# Altium footprint library PcbLib1.PcbLib: 14 footprints
Each footprint in its own frame and in the unit in brackets; x right, y up, seen from the top. Pads: shape width x height; smd on the part's side, far side on the other; paste and mask are expansions set on the pad; w line width, h text height; cw(c..) or ccw(c..) is an arc to the next point about the centre after c.
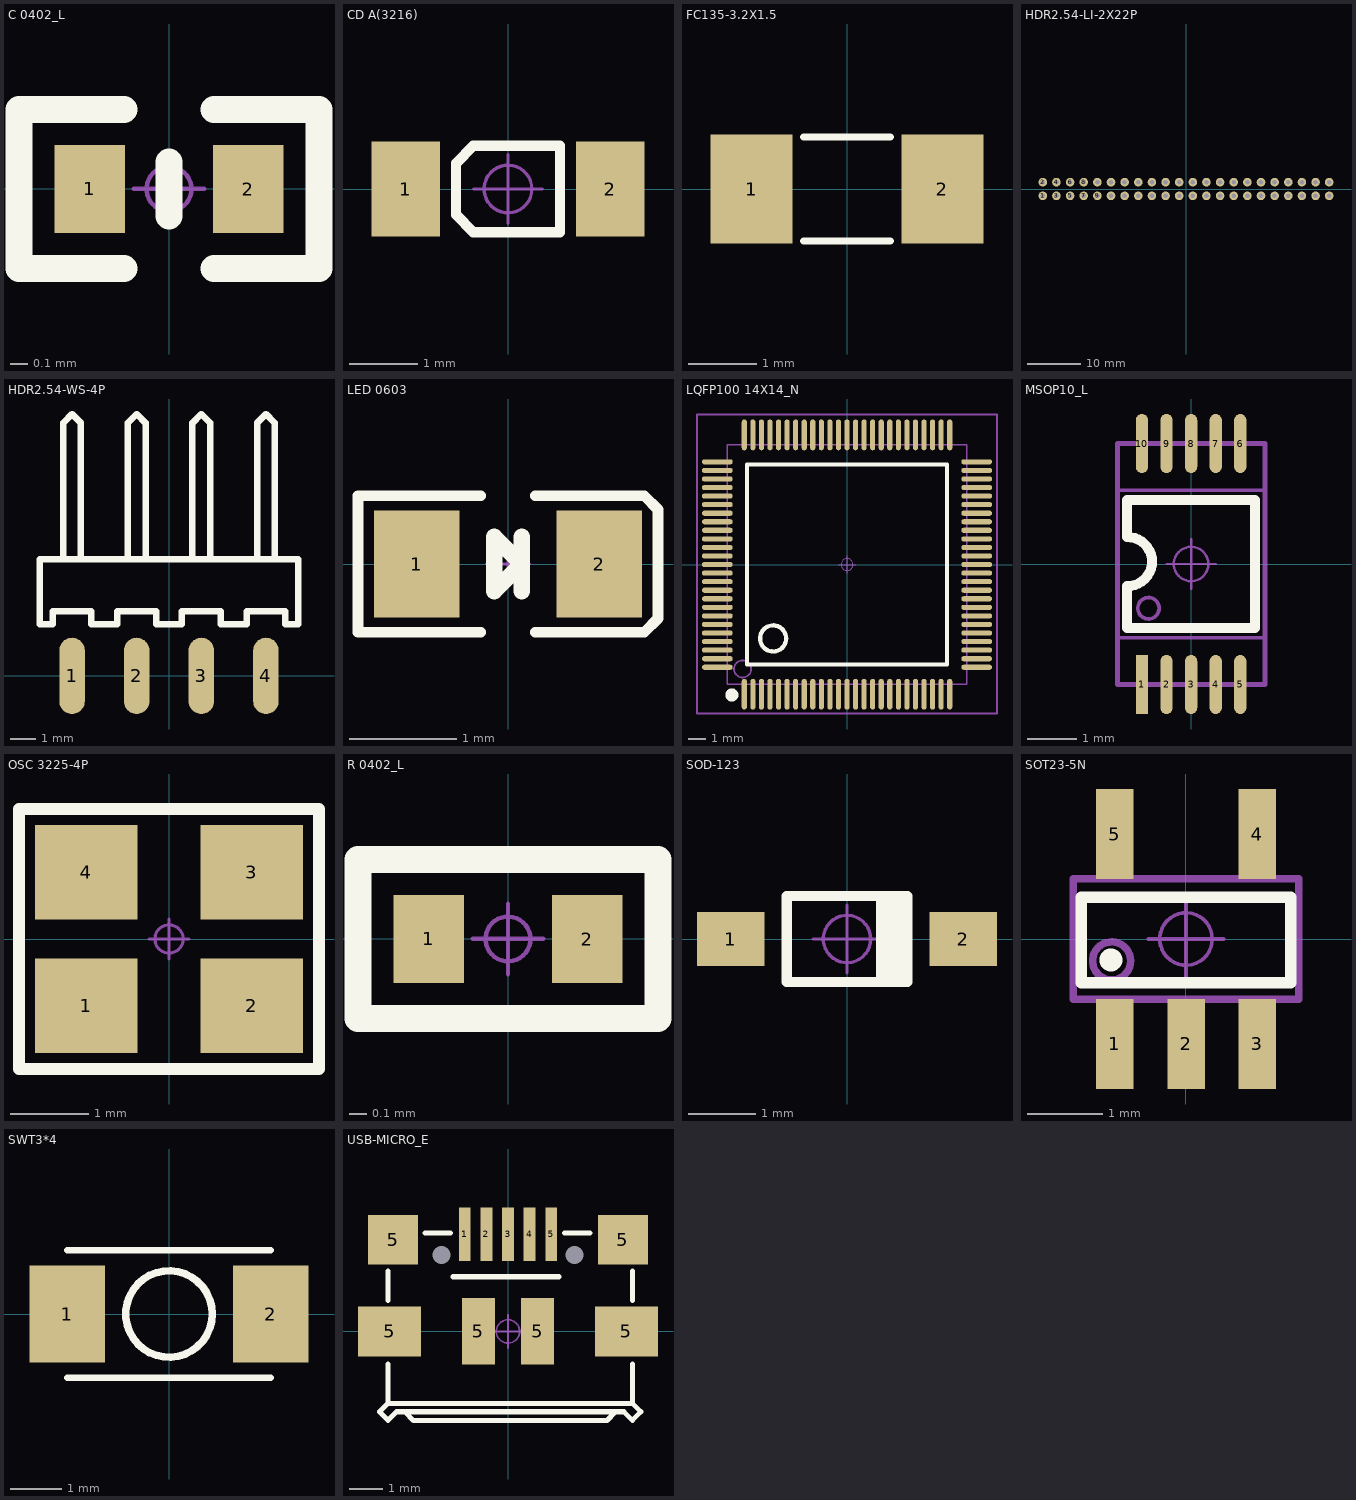
[diagram p0: the footprints below, top view; thin cyan lines are the x and y axes]

## C 0402_L [mm] "无极性贴片电容"
pads (2):
  rect 0.4x0.5 smd: 1(-0.45,0) 2(0.45,0)
Top Overlay:
  lines w0.152: -0.254,-0.45 -0.85,-0.45 ; -0.254,0.45 -0.85,0.45 -0.85,-0.45 ; 0,-0.152 0,0.152 ; 0.254,-0.45 0.85,-0.45 0.85,0.45 0.254,0.45 ; -0.85,-0.45 -0.85,-0.45
Mechanical 15:
  circle w0.025: c0,0 r0.127
  lines w0.025: -0.2,0 0.2,0 ; 0,-0.2 0,0.2
3D body "C 0402.STEP": height 0.53, standoff 0.01, extent -0.5,-0.26 0.5,0.26

## CD A(3216) [mm] "长3.2mm，宽1.6mm，厚1.6mm"
pads (2):
  rect 1x1.4 smd: 1(-1.5,0) 2(1.5,0)
Top Overlay:
  lines w0.152: -0.762,-0.381 -0.508,-0.635 0.762,-0.635 0.762,0.635 -0.508,0.635 -0.762,0.381 -0.762,-0.381
Mechanical 15:
  circle w0.05: c0,0 r0.35
  lines w0.05: -0.5,0 0.5,0 ; 0,-0.5 0,0.5
3D body "CD A(3216).STEP": height 1.6, standoff -0.01, extent -1.6,-0.8 1.6,0.8

## FC135-3.2X1.5 [mm] "晶振"
pads (2):
  rect 1.2x1.6 smd: 1(-1.4,0) 2(1.4,0)
Top Overlay:
  lines w0.102: -0.635,-0.762 0.635,-0.762 ; -0.635,0.762 0.635,0.762
3D body "User Library-ABS07.STEP": height 0.91, standoff 0, extent -1.61,-0.76 1.61,0.76

## HDR2.54-LI-2X22P [mm] "双排排针，20x2脚"
pads (44):
  round 1.6 hole 0.9: 1(-26.67,-1.27) 2(-26.67,1.27) 3(-24.13,-1.27) 4(-24.13,1.27) 5(-21.59,-1.27) 6(-21.59,1.27) 7(-19.05,-1.27) 8(-19.05,1.27) 9(-16.51,-1.27) 10(-16.51,1.27) 11(-13.97,-1.27) 12(-13.97,1.27) 13(-11.43,-1.27) 14(-11.43,1.27) 15(-8.89,-1.27) 16(-8.89,1.27) 17(-6.35,-1.27) 18(-6.35,1.27) 19(-3.81,-1.27) 20(-3.81,1.27) 21(-1.27,-1.27) 22(-1.27,1.27) 23(1.27,-1.27) 24(1.27,1.27) 25(3.81,-1.27) 26(3.81,1.27) 27(6.35,-1.27) 28(6.35,1.27) 29(8.89,-1.27) 30(8.89,1.27) 31(11.43,-1.27) 32(11.43,1.27) 33(13.97,-1.27) 34(13.97,1.27) 35(16.51,-1.27) 36(16.51,1.27) 37(19.05,-1.27) 38(19.05,1.27) 39(21.59,-1.27) 40(21.59,1.27) 41(24.13,-1.27) 42(24.13,1.27) 43(26.67,-1.27) 44(26.67,1.27)
Bottom Overlay:
  lines w0.2: -27.94,-2.159 -27.94,2.159
  lines w0.203: -27.94,-2.159 -27.559,-2.54 27.559,-2.54 27.94,-2.159 27.94,2.159 27.559,2.54 -27.559,2.54 -27.94,2.159 ; -27.94,0 27.94,0 ; -25.4,-2.54 -25.4,2.54 ; -22.86,-2.54 -22.86,2.54 ; -20.32,-2.54 -20.32,2.54 ; -17.78,-2.54 -17.78,2.54 ; -15.24,-2.54 -15.24,2.54 ; -12.7,-2.54 -12.7,2.54 ; -10.16,-2.54 -10.16,2.54 ; -7.62,-2.54 -7.62,2.54 ; -5.08,-2.54 -5.08,2.54 ; -2.54,-2.54 -2.54,2.54 ; 0,-2.54 0,2.54 ; 2.54,-2.54 2.54,2.54 ; 5.08,-2.54 5.08,2.54 ; 7.62,-2.54 7.62,2.54 ; 10.16,-2.54 10.16,2.54 ; 12.7,-2.54 12.7,2.54 ; 15.24,-2.54 15.24,2.54 ; 17.78,-2.54 17.78,2.54 ; 20.32,-2.54 20.32,2.54 ; 22.86,-2.54 22.86,2.54 ; 25.4,-2.54 25.4,2.54
3D body "HDR2.54-1x2P.STEP": height 8.5, standoff -3, extent 25.4,-2.54 27.94,2.54
3D body "HDR2.54-1x2P.STEP": height 8.5, standoff -3, extent 22.86,-2.54 25.4,2.54
3D body "HDR2.54-1x2P.STEP": height 8.5, standoff -3, extent 20.32,-2.54 22.86,2.54
3D body "HDR2.54-1x2P.STEP": height 8.5, standoff -3, extent 17.78,-2.54 20.32,2.54
3D body "HDR2.54-1x2P.STEP": height 8.5, standoff -3, extent 15.24,-2.54 17.78,2.54
3D body "HDR2.54-1x2P.STEP": height 8.5, standoff -3, extent 12.7,-2.54 15.24,2.54
3D body "HDR2.54-1x2P.STEP": height 8.5, standoff -3, extent 10.16,-2.54 12.7,2.54
3D body "HDR2.54-1x2P.STEP": height 8.5, standoff -3, extent 7.62,-2.54 10.16,2.54
3D body "HDR2.54-1x2P.STEP": height 8.5, standoff -3, extent 5.08,-2.54 7.62,2.54
3D body "HDR2.54-1x2P.STEP": height 8.5, standoff -3, extent 2.54,-2.54 5.08,2.54
3D body "HDR2.54-1x2P.STEP": height 8.5, standoff -3, extent 0,-2.54 2.54,2.54
3D body "HDR2.54-1x2P.STEP": height 8.5, standoff -3, extent -2.54,-2.54 0,2.54
3D body "HDR2.54-1x2P.STEP": height 8.5, standoff -3, extent -5.08,-2.54 -2.54,2.54
3D body "HDR2.54-1x2P.STEP": height 8.5, standoff -3, extent -7.62,-2.54 -5.08,2.54
3D body "HDR2.54-1x2P.STEP": height 8.5, standoff -3, extent -10.16,-2.54 -7.62,2.54
3D body "HDR2.54-1x2P.STEP": height 8.5, standoff -3, extent -12.7,-2.54 -10.16,2.54
3D body "HDR2.54-1x2P.STEP": height 8.5, standoff -3, extent -15.24,-2.54 -12.7,2.54
3D body "HDR2.54-1x2P.STEP": height 8.5, standoff -3, extent -17.78,-2.54 -15.24,2.54
3D body "HDR2.54-1x2P.STEP": height 8.5, standoff -3, extent -20.32,-2.54 -17.78,2.54
3D body "HDR2.54-1x2P.STEP": height 8.5, standoff -3, extent -22.86,-2.54 -20.32,2.54
3D body "HDR2.54-1x2P.STEP": height 8.5, standoff -3, extent -25.4,-2.54 -22.86,2.54
3D body "HDR2.54-1x2P.STEP": height 8.5, standoff -3, extent -27.94,-2.54 -25.4,2.54

## HDR2.54-WS-4P [mm] "4P卧式贴片排针2.54"
pads (4):
  oval 1x3 smd: 1(-3.81,0) 2(-1.27,0) 3(1.27,0) 4(3.81,0)
Top Overlay:
  lines w0.254: -4.16,4.572 -4.16,9.8 -4.16,9.937 -3.81,10.287 -3.46,9.937 -3.46,9.8 -3.46,4.572 ; -1.62,4.572 -1.62,9.8 -1.62,9.937 -1.27,10.287 -0.92,9.937 -0.92,9.8 -0.92,4.572 ; 0.92,4.572 0.92,9.8 0.92,9.937 1.27,10.287 1.62,9.937 1.62,9.8 1.62,4.572 ; 3.46,4.572 3.46,9.8 3.46,9.937 3.81,10.287 4.16,9.937 4.16,9.8 4.16,4.572 ; -5.08,2.032 -5.08,4.572 -2.54,4.572 0,4.572 2.54,4.572 5.08,4.572 5.08,2.032 4.572,2.032 4.572,2.54 4.318,2.54 3.048,2.54 3.048,2.032 2.54,2.032 2.032,2.032 2.032,2.54 1.778,2.54 0.508,2.54 0.508,2.032 0,2.032 -0.508,2.032 -0.508,2.54 -0.762,2.54 -2.032,2.54 -2.032,2.032 -2.54,2.032 -3.048,2.032 -3.048,2.54 -3.302,2.54 -4.572,2.54 -4.572,2.032 -5.08,2.032
3D body "HDR2.54 S-W-1P.STEP": height 2.54, standoff -0.01, extent -5.08,-0.76 -2.54,10.34
3D body "HDR2.54 S-W-1P.STEP": height 2.54, standoff -0.01, extent -2.54,-0.76 0,10.34
3D body "HDR2.54 S-W-1P.STEP": height 2.54, standoff -0.01, extent 0,-0.76 2.54,10.34
3D body "HDR2.54 S-W-1P.STEP": height 2.54, standoff -0.01, extent 2.54,-0.76 5.08,10.34

## LED 0603 [mm] "贴片带丝印"
height 0.6
pads (2):
  rect 0.8x1 smd: 1(-0.85,0) 2(0.85,0)
Top Overlay:
  lines w0.1: -0.254,-0.635 -1.397,-0.635 -1.397,0.635 -0.254,0.635 ; 0.254,-0.635 1.27,-0.635 1.397,-0.508 1.397,0.508 1.27,0.635 0.254,0.635
  lines w0.152: 0.127,-0.254 0.127,0.254 ; -0.127,-0.254 -0.127,0.254 0.127,0 -0.127,-0.254
Mechanical 15:
  circle w0.025: c0,0 r0.127
  lines w0.025: -0.2,0 0.2,0 ; 0,-0.2 0,0.2
3D body "LED 0603-W.STEP": height 0.47, standoff 0, extent -0.8,-0.401 0.8,0.401
3D body "LED 0603玻璃罩.STEP": height 0.61, standoff 0.21, extent -0.6,-0.4 0.6,0.4

## LQFP100 14X14_N [mm] "100脚，体宽14x14mm，脚距0.5mm"
height 1.6
pads (100):
  oval 0.3x1.8 smd: 1(-6,-7.575) 2(-5.5,-7.575) 3(-5,-7.575) 4(-4.5,-7.575) 5(-4,-7.575) 6(-3.5,-7.575) 7(-3,-7.575) 8(-2.5,-7.575) 9(-2,-7.575) 10(-1.5,-7.575) 11(-1,-7.575) 12(-0.5,-7.575) 13(0,-7.575) 14(0.5,-7.575) 15(1,-7.575) 16(1.5,-7.575) 17(2,-7.575) 18(2.5,-7.575) 19(3,-7.575) 20(3.5,-7.575) 21(4,-7.575) 22(4.5,-7.575) 23(5,-7.575) 24(5.5,-7.575) 25(6,-7.575) 51(6,7.575) 52(5.5,7.575) 53(5,7.575) 54(4.5,7.575) 55(4,7.575) 56(3.5,7.575) 57(3,7.575) 58(2.5,7.575) 59(2,7.575) 60(1.5,7.575) 61(1,7.575) 62(0.5,7.575) 63(0,7.575) 64(-0.5,7.575) 65(-1,7.575) 66(-1.5,7.575) 67(-2,7.575) 68(-2.5,7.575) 69(-3,7.575) 70(-3.5,7.575) 71(-4,7.575) 72(-4.5,7.575) 73(-5,7.575) 74(-5.5,7.575) 75(-6,7.575)
  oval 1.8x0.3 smd: 26(7.576,-6) 27(7.576,-5.5) 28(7.576,-5) 29(7.576,-4.5) 30(7.576,-4) 31(7.576,-3.5) 32(7.576,-3) 33(7.576,-2.5) 34(7.576,-2) 35(7.576,-1.5) 36(7.576,-1) 37(7.576,-0.5) 38(7.576,0) 39(7.576,0.5) 40(7.576,1) 41(7.576,1.5) 42(7.576,2) 43(7.576,2.5) 44(7.576,3) 45(7.576,3.5) 46(7.576,4) 47(7.576,4.5) 48(7.576,5) 49(7.576,5.5) 50(7.576,6) 76(-7.575,6) 77(-7.575,5.5) 78(-7.575,5) 79(-7.575,4.5) 80(-7.575,4) 81(-7.575,3.5) 82(-7.575,3) 83(-7.575,2.5) 84(-7.575,2) 85(-7.575,1.5) 86(-7.575,1) 87(-7.575,0.5) 88(-7.575,0) 89(-7.575,-0.5) 90(-7.575,-1) 91(-7.575,-1.5) 92(-7.575,-2) 93(-7.575,-2.5) 94(-7.575,-3) 95(-7.575,-3.5) 96(-7.575,-4) 97(-7.575,-4.5) 98(-7.575,-5) 99(-7.575,-5.5) 100(-7.575,-6)
Top Overlay:
  circle w0.254: c-4.318,-4.318 r0.762
  circle w0.381: c-6.731,-7.62 r0.191
  lines w0.254: -5.842,-5.842 5.842,-5.842 5.842,5.842 -5.842,5.842 -5.842,-5.842
Mechanical 13:
  circle w0.1: c-6.1,-6.1 r0.5
  lines w0.1: -7,-7 -7,7 7,7 7,-7 -7,-7
Mechanical 15:
  circle w0.05: c0,0 r0.35
  lines w0.05: -0.5,0 0.5,0 ; 0,-0.5 0,0.5
  lines w0.1: -8.763,-8.7 -8.763,8.763 8.763,8.763 8.763,-8.7 -8.763,-8.7
3D body "LQFP100-14x14.STEP": height 1.45, standoff -0.01, extent -8.003,-8.003 8.003,8.003

## MSOP10_L [mm] "塑封体长3mm，宽3mm，脚距0.5"
pads (10):
  rect 0.25x1.2 smd: 1(-1,-2.45)
  oval 0.25x1.2 smd: 2(-0.5,-2.45) 3(0,-2.45) 4(0.5,-2.45) 5(1,-2.45) 6(1,2.45) 7(0.5,2.45) 8(0,2.45) 9(-0.5,2.45) 10(-1,2.45)
Top Overlay:
  lines w0.2: -1.3,-1.3 1.3,-1.3 1.3,1.3 -1.3,1.3
  lines w0.203: -1.3,-1.3 -1.3,-0.46 ; -1.3,-0.45 ccw(c-1.3,0.058) -0.792,0.058 ; -1.3,0.55 cw(c-1.3,0.042) -0.792,0.042 ; -1.3,0.556 -1.3,1.3
Mechanical 13:
  circle w0.076: c-0.867,-0.9 r0.217
  lines w0.076: -1.5,-1.5 1.5,-1.5 1.5,1.5 -1.5,1.5 -1.5,-1.5
Mechanical 15:
  circle w0.05: c0,0 r0.35
  lines w0.05: -0.5,0 0.5,0 ; 0,-0.5 0,0.5
  lines w0.1: -1.5,-2.45 -1.5,2.45 1.5,2.45 1.5,-2.45 -1.5,-2.45
3D body "MSOP-10.STEP": height 0.95, standoff 0, extent -1.5,-2.45 1.5,2.45

## OSC 3225-4P [mm] "3.2*2.5*0.7mm(长宽高)"
pads (4):
  rect 1.3x1.2 smd: 1(-1.05,-0.85) 2(1.05,-0.85) 3(1.05,0.85) 4(-1.05,0.85)
Top Overlay:
  lines w0.152: -1.905,-1.651 -1.905,1.651 1.905,1.651 1.905,-1.651 -1.905,-1.651
Mechanical 15:
  circle w0.04: c0,0 r0.18
  lines w0.04: -0.254,0 0.254,0 ; 0,-0.254 0,0.254
3D body "OSC 3225-4.STEP": height 0.7, standoff -0.02, extent -1.6,-1.25 1.6,1.25

## R 0402_L [mm] "1/16W贴片电阻"
pads (2):
  rect 0.4x0.5 smd: 1(-0.45,0) 2(0.45,0)
Top Overlay:
  lines w0.152: -0.85,-0.45 -0.85,0.45 0.85,0.45 0.85,-0.45 -0.85,-0.45 ; -0.85,-0.45 -0.85,-0.45
Mechanical 15:
  circle w0.025: c0,0 r0.127
  lines w0.025: -0.2,0 0.2,0 ; 0,-0.2 0,0.2
3D body "R 0402.STEP": height 0.3, standoff 0, extent -0.5,-0.25 0.5,0.25

## SOD-123 [mm] "2.7x1.6X1.1mm（长宽高，不包括引脚）"
pads (2):
  rect 1x0.8 smd: 1(-1.714,0) 2(1.714,0)
Top Overlay:
  lines w0.152: 0.508,-0.635 0.508,0.635 ; 0.635,-0.635 0.635,0.635 ; 0.762,-0.635 0.762,0.635 ; -0.889,-0.635 -0.889,0.635 0.889,0.635 0.889,-0.635 -0.889,-0.635
Mechanical 15:
  circle w0.05: c0,0 r0.35
  lines w0.05: -0.5,0 0.5,0 ; 0,-0.5 0,0.5
3D body "SOD-123.STEP": height 1.22, standoff 0, extent -1.85,-0.8 1.85,0.8

## SOT23-5N [mm] "3x1.6x1.1mm(长宽高)"
pads (5):
  rect 0.5x1.2 smd: 1(-0.95,-1.4) 2(0,-1.4) 3(0.95,-1.4) 4(0.95,1.4) 5(-0.95,1.4)
Top Overlay:
  circle w0.254: c-1.001,-0.279 r0.025
  lines w0.152: -1.397,-0.584 1.397,-0.584 1.397,0.559 -1.397,0.559 -1.397,-0.584
Mechanical 13:
  circle w0.1: c-0.992,-0.292 r0.254
  lines w0.1: -1.5,-0.8 1.5,-0.8 1.5,0.8 -1.5,0.8 -1.5,-0.8
Mechanical 15:
  circle w0.05: c0,0 r0.35
  lines w0.05: -0.5,0 0.5,0 ; 0,-0.5 0,0.5
3D body "SOT-23-5.STEP": height 1.2, standoff 0, extent -1.45,-1.4 1.45,1.4

## SWT3*4 [mm]
pads (2):
  rect 1.48x1.9 smd: 1(-2,0) 2(2,0)
Top Overlay:
  circle w0.15: c0,0 r0.85
  lines w0.127: -2,-1.25 2,-1.25 ; -2,1.25 2,1.25
3D body "User Library-Pushbutton3x4x2.step": height 2, standoff 0, extent -2.45,-1.45 2.45,1.45

## USB-MICRO_E [mm] "micro型USB ，5.9*8.2*2.5mm"
pads (13):
  round 0 hole 0.54 unplated: 0(-2,2.294) 0(2,2.294)
  rect 0.35x1.6 smd: 1(-1.295,2.921) 2(-0.648,2.921) 3(0,2.921) 4(0.648,2.921) 5(1.295,2.921)
  rect 1.9x1.5 smd: 5(-3.556,0) 5(3.556,0)
  rect 1.5x1.5 smd: 5(-3.454,2.754) 5(3.454,2.754)
  rect 1x2 smd: 5(-0.889,0.01) 5(0.889,0.01)
Top Overlay:
  lines w0.15: -2.489,2.959 -1.727,2.959 ; 1.702,2.959 2.464,2.959
  lines w0.152: -3.607,-0.978 -3.607,-2.159 ; -3.607,0.927 -3.607,1.816 ; -1.645,1.642 1.53,1.642 ; 3.734,-0.978 3.734,-2.159 ; 3.734,0.927 3.734,1.816 ; -3.607,-2.159 -3.861,-2.413 -3.607,-2.667 -3.353,-2.413 -3.099,-2.413 ; -3.607,-2.159 3.734,-2.159 ; -3.099,-2.413 3.226,-2.413 ; -3.099,-2.413 -2.845,-2.673 2.972,-2.673 3.226,-2.413 ; 3.226,-2.413 3.48,-2.413 3.734,-2.667 3.988,-2.413 3.734,-2.159
Mechanical 15:
  circle w0.05: c0,0 r0.35
  lines w0.05: -0.5,0 0.5,0 ; 0,-0.5 0,0.5
3D body "USB micro_E.STEP": height 2.8, standoff -0.55, extent -4.001,-2.716 4.001,3.359